# Altium footprint library DC JACK PNL MNT.PcbLib: 1 footprints
Each footprint in its own frame and in the unit in brackets; x right, y up, seen from the top. Pads: shape width x height; smd on the part's side, far side on the other; paste and mask are expansions set on the pad; w line width, h text height; cw(c..) or ccw(c..) is an arc to the next point about the centre after c.
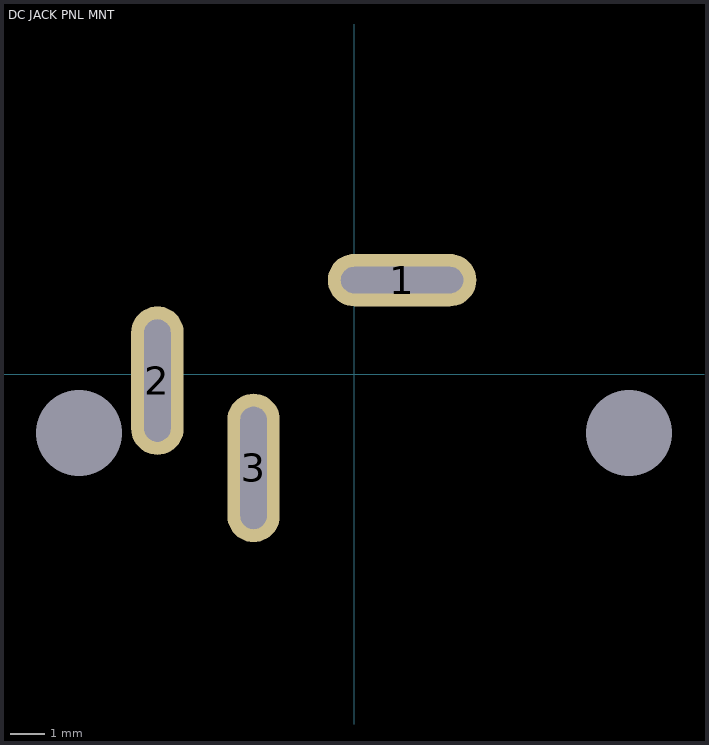
[diagram p0: the footprint, top view; thin cyan lines are the x and y axes]

## DC JACK PNL MNT [mil]
pads (5):
  oval 170x60 hole 30 slot 140 at 0 deg: 1(55,107.5)
  oval 60x170 hole 30 slot 140 at 90 deg: 2(-225,-7.5) 3(-115,-107.5)
  round 0 hole 98.43 unplated: MH(-315,-67.5) MH(315,-67.5)